# Altium schematic symbol library MFL HIGH PWR XFMR.SchLib: 1 symbol
Pins are listed as number, name and electrical type; pins without a type are passive.

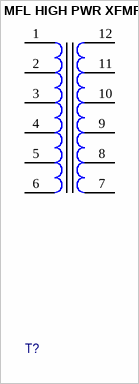
[diagram p0: symbol MFL HIGH PWR XFMR]

## MFL HIGH PWR XFMR
designator T?  (value not drawn)
pins: 1 NC, 2 PRI START, 3 50T, 4 100T, 5 450T, 6 NC, 7 NC, 8 550T, 9 200T, 10 100T, 11 SEC START, 12 NC